# EAGLE library part 615016338621 (library Wuerth_Elektronik_eiCan_Modular_Jack_Connectors_v1.1)
WR-MJ Horizontal Shielded with LED 8P8C Modular Jack Tab Up + Dual USB Stacked, 8 Pins
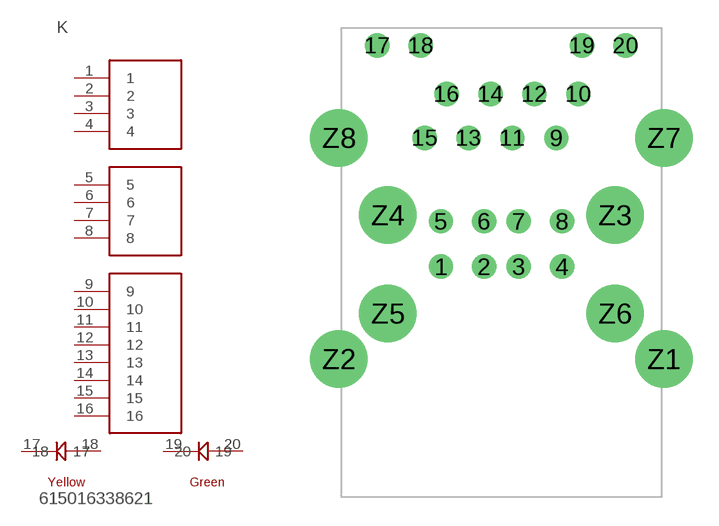
[diagram p10: symbol with the pads of 615016338621; footprint 615016338621]

Designator prefix K

## 615016338621  [615016338621]
1  1  pas
2  2  pas
3  3  pas
4  4  pas
5  5  pas
6  6  pas
7  7  pas
8  8  pas
9  9  pas
10  10  pas
11  11  pas
12  12  pas
13  13  pas
14  14  pas
15  15  pas
16  16  pas
17  17  pas
18  18  pas
19  19  pas
20  20  pas

## Footprint 615016338621 (pad centres in mm)
WR-MJ Horizontal Shielded with LED 8P8C Modular Jack Tab Up + Dual USB Stacked, 8 Pins
drill 0.9 round: 1 -3.5,-8.71; 2 -1,-8.71; 3 1,-8.71; 4 3.51,-8.71; 5 -3.5,-6.09; 6 -1,-6.09; 7 1,-6.09; 8 3.51,-6.09; 9 3.175,-1.27; 10 4.445,1.27; 11 0.635,-1.27; 12 1.905,1.27; 13 -1.905,-1.27; 14 -0.635,1.27; 15 -4.445,-1.27; 16 -3.175,1.27; 17 -7.175,4.07; 18 -4.66,4.07; 19 4.66,4.07; 20 7.175,4.07
drill 2.3 round: Z1 9.4,-14.05; Z2 -9.4,-14.05; Z3 6.57,-5.74; Z4 -6.57,-5.74; Z5 -6.57,-11.42; Z6 6.57,-11.42; Z7 9.4,-1.27; Z8 -9.4,-1.27